# EAGLE library part LPC1114FHN33/333 (library nxp_60_1_1)
32-bit ARM Cortex-M0 microcontroller; up to 64 kB flash and 8 kB SRAM The LPC1110/11/12/13/14/15 are a ARM Cortex-M0 based, low-cost 32-bit MCU family, designed for 8/16-bit microcontroller applications, offering performance, low power, simple instruction set and memory addressing together with reduced code size compared to existing 8/16-bit architectures. The LPC1110/11/12/13/14/15 operate at CPU frequencies of up to 50 MHz. The peripheral complement of the LPC1110/11/12/13/14/15 includes up to 64 kB of flash memory, up to 8 kB of data memory, one Fast-mode Plus I 2 C-bus interface, one RS-485/EIA-485 UART, up to two SPI interfaces with SSP features, four general purpose counter/timers, a 10-bit ADC, and up to 42 general purpose I/O pins. Remark: The LPC111x series consists of the LPC1100 series (parts LPC111x/101/201/301), LPC1100L series (parts LPC111x/002/102/202/302), and the LPC1100XL series (parts LPC111x/103/203/303/323/333). The LPC1100L and LPC1100XL series include the power profiles, a windowed watchdog timer, and a configurable open-drain mode. AAL Eindhoven MK
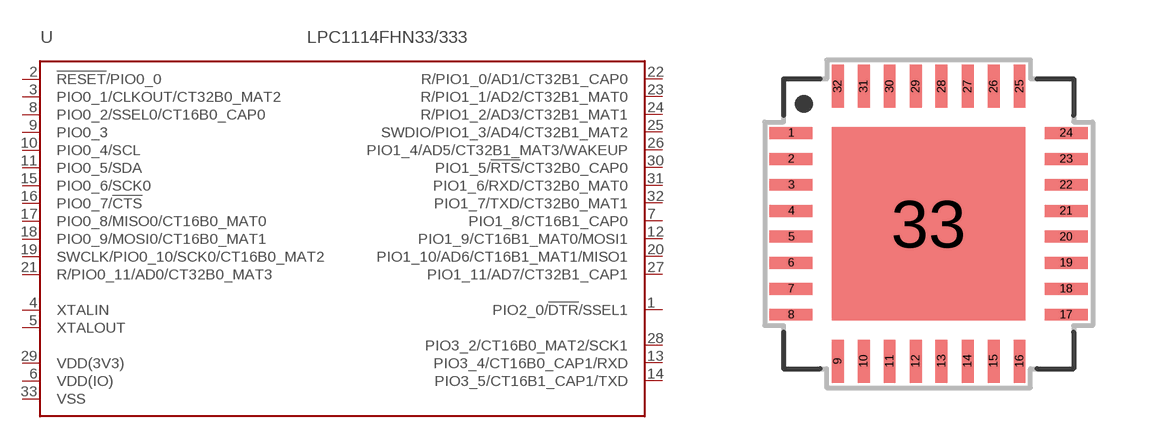
[diagram p205: symbol with the pads of SOT-HVQFN33; footprint SOT-HVQFN33]

Designator prefix U

## LPC1114FHN33/333 (ADC: 8; FLASH: 56kB; GPIO: 28; PWR_PROFILES: yes; SERIES: LPC1100XL; SPI: 2; SRAM: 8kB)  [SOT-HVQFN33]
1  PIO2_0/!DTR!/SSEL1
2  !RESET!/PIO0_0
3  PIO0_1/CLKOUT/CT32B0_MAT2
4  XTALIN  in
5  XTALOUT  out
6  VDD(IO)  pwr
7  PIO1_8/CT16B1_CAP0
8  PIO0_2/SSEL0/CT16B0_CAP0
9  PIO0_3
10  PIO0_4/SCL
11  PIO0_5/SDA
12  PIO1_9/CT16B1_MAT0/MOSI1
13  PIO3_4/CT16B0_CAP1/RXD
14  PIO3_5/CT16B1_CAP1/TXD
15  PIO0_6/SCK0
16  PIO0_7/!CTS!
17  PIO0_8/MISO0/CT16B0_MAT0
18  PIO0_9/MOSI0/CT16B0_MAT1
19  SWCLK/PIO0_10/SCK0/CT16B0_MAT2
20  PIO1_10/AD6/CT16B1_MAT1/MISO1
21  R/PIO0_11/AD0/CT32B0_MAT3
22  R/PIO1_0/AD1/CT32B1_CAP0
23  R/PIO1_1/AD2/CT32B1_MAT0
24  R/PIO1_2/AD3/CT32B1_MAT1
25  SWDIO/PIO1_3/AD4/CT32B1_MAT2
26  PIO1_4/AD5/CT32B1_MAT3/WAKEUP
27  PIO1_11/AD7/CT32B1_CAP1
28  PIO3_2/CT16B0_MAT2/SCK1
29  VDD(3V3)  pwr
30  PIO1_5/!RTS!/CT32B0_CAP0
31  PIO1_6/RXD/CT32B0_MAT0
32  PIO1_7/TXD/CT32B0_MAT1
33  VSS  pwr

## Footprint SOT-HVQFN33 (pad centres in mm)
SOTxxx HVQFN33: plastic thermal enhanced very thin quad flat package; no leads; 33 terminals; body 7 x 7 x 0.85 mm JEDEC: --- IEC: --- Package according LPC111x datasheet
smd 1.075 x 0.3: 1 -3.438,2.275; 2 -3.438,1.625; 3 -3.438,0.975; 4 -3.438,0.325; 5 -3.438,-0.325; 6 -3.438,-0.975; 7 -3.438,-1.625; 8 -3.438,-2.275; 17 3.438,-2.275; 18 3.438,-1.625; 19 3.438,-0.975; 20 3.438,-0.325; 21 3.438,0.325; 22 3.438,0.975; 23 3.438,1.625; 24 3.438,2.275
smd 0.3 x 1.075: 9 -2.275,-3.438; 10 -1.625,-3.438; 11 -0.975,-3.438; 12 -0.325,-3.438; 13 0.325,-3.438; 14 0.975,-3.438; 15 1.625,-3.438; 16 2.275,-3.438; 25 2.275,3.438; 26 1.625,3.438; 27 0.975,3.438; 28 0.325,3.438; 29 -0.325,3.438; 30 -0.975,3.438; 31 -1.625,3.438; 32 -2.275,3.438
smd 4.85 x 4.85: 33 0,0